# Altium schematic symbol library LPC.SchLib: 1 symbol
Pins are listed as number, name and electrical type; pins without a type are passive.

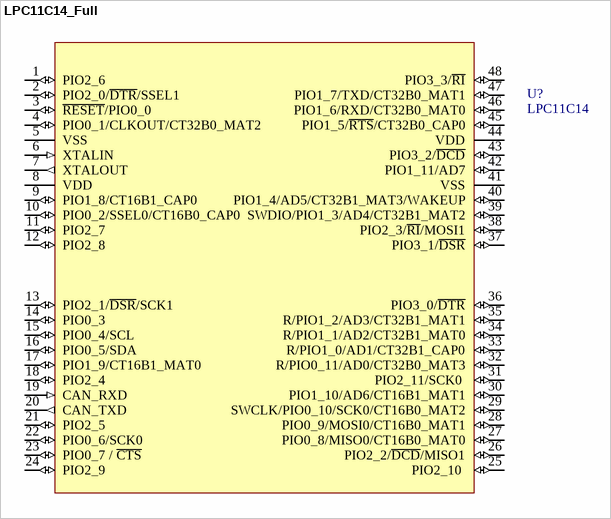
[diagram p0: symbol LPC11C14_Full]

## LPC11C14_Full
designator U?, comment LPC11C14
Farnell: NA
footprint TSQFP50P900X900-48N (Thin QFP, 48-Leads, Body 7x7mm, Pitch 0.5mm, IPC Medium Density)
footprint TSQFP50P900X900-48N (Thin QFP, 48-Leads, Body 7x7mm, Pitch 0.5mm, IPC Medium Density)
footprint HMC5843 - LPCC 20 Pin
pins: 1 PIO2_6 (io), 2 PIO2_0/~{DTR}/SSEL1 (io), 3 ~{RESET}/PIO0_0 (io), 4 PIO0_1/CLKOUT/CT32B0_MAT2 (io), 5 VSS (power), 6 XTALIN (in), 7 XTALOUT (out), 8 VDD (power), 9 PIO1_8/CT16B1_CAP0 (io), 10 PIO0_2/SSEL0/CT16B0_CAP0 (io), 11 PIO2_7 (io), 12 PIO2_8 (io), 13 PIO2_1/~{DSR}/SCK1 (io), 14 PIO0_3 (io), 15 PIO0_4/SCL (io), 16 PIO0_5/SDA (io), 17 PIO1_9/CT16B1_MAT0 (io), 18 PIO2_4 (io), 19 CAN_RXD (in), 20 CAN_TXD (out), 21 PIO2_5 (io), 22 PIO0_6/SCK0 (io), 23 PIO0_7 / ~{CTS} (io), 24 PIO2_9 (io), 25 PIO2_10  (io), 26 PIO2_2/~{DCD}/MISO1 (io), 27 PIO0_8/MISO0/CT16B0_MAT0 (io), 28 PIO0_9/MOSI0/CT16B0_MAT1 (io), 29 SWCLK/PIO0_10/SCK0/CT16B0_MAT2 (io), 30 PIO1_10/AD6/CT16B1_MAT1 (io), 31 PIO2_11/SCK0  (io), 32 R/PIO0_11/AD0/CT32B0_MAT3 (io), 33 R/PIO1_0/AD1/CT32B1_CAP0 (io), 34 R/PIO1_1/AD2/CT32B1_MAT0 (io), 35 R/PIO1_2/AD3/CT32B1_MAT1 (io), 36 PIO3_0/~{DTR} (io), 37 PIO3_1/~{DSR} (io), 38 PIO2_3/~{RI}/MOSI1 (io), 39 SWDIO/PIO1_3/AD4/CT32B1_MAT2 (io), 40 PIO1_4/AD5/CT32B1_MAT3/WAKEUP (io), 41 VSS (power), 42 PIO1_11/AD7 (io), 43 PIO3_2/~{DCD} (io), 44 VDD (power), 45 PIO1_5/~{RTS}/CT32B0_CAP0 (io), 46 PIO1_6/RXD/CT32B0_MAT0 (io), 47 PIO1_7/TXD/CT32B0_MAT1 (io), 48 PIO3_3/~{RI} (io)